# Altium footprint library ANT_SMD-SPE-PA.22.PcbLib: 1 footprints
Each footprint in its own frame and in the unit in brackets; x right, y up, seen from the top. Pads: shape width x height; smd on the part's side, far side on the other; paste and mask are expansions set on the pad; w line width, h text height; cw(c..) or ccw(c..) is an arc to the next point about the centre after c.
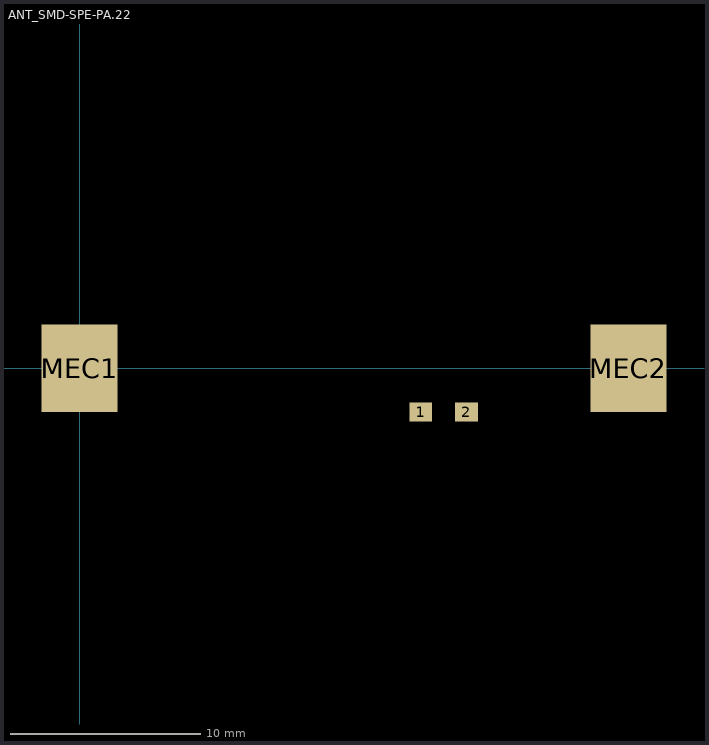
[diagram p0: the footprint, top view; thin cyan lines are the x and y axes]

## ANT_SMD-SPE-PA.22 [mm]
pads (4):
  rect 1.2x1 smd: 1(17.9,-2.3) 2(20.3,-2.3)
  rect 4x4.6 smd: MEC1(0,0) MEC2(28.8,0)
3D body: height 6, standoff 0, extent -0.762,-2.54 29.21,2.54